# Altium schematic symbol library Schlib1.SchLib: 32 symbols
Pins are listed as number, name and electrical type; pins without a type are passive.

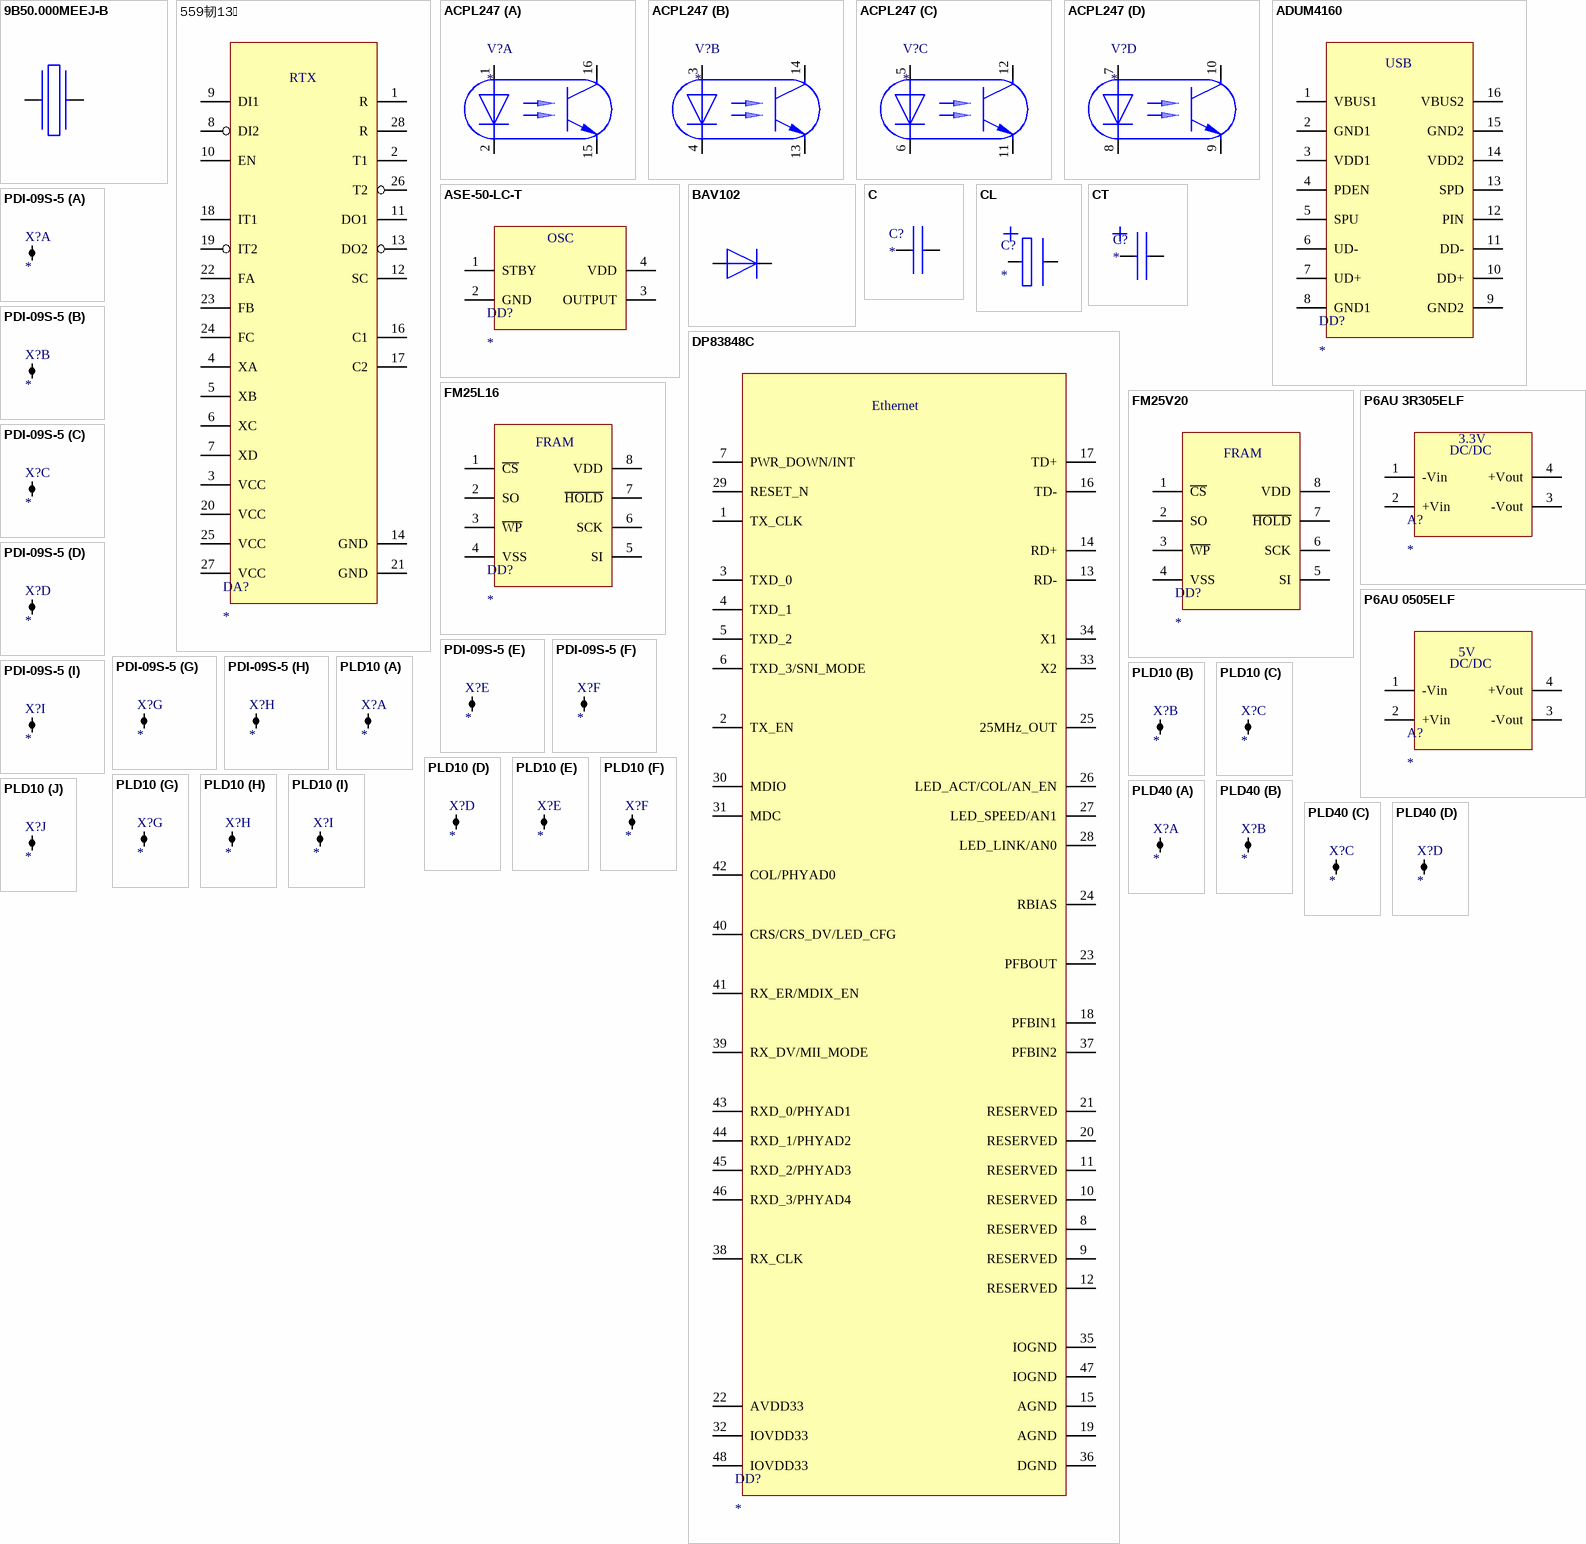
[diagram p0: symbols 9B50.000MEEJ-B to PLD40]

## 9B50.000MEEJ-B
designator Q?
footprint 惺386
pins: 1, 2

## 559韧13�
designator DA?
footprint H09.28-1B (5559韧13�)
pins: 1 R, 2 T1, 3 VCC, 4 XA, 5 XB, 6 XC, 7 XD, 8 DI2, 9 DI1, 10 EN, 11 DO1, 12 SC, 13 DO2, 14 GND, 16 C1, 17 C2, 18 IT1, 19 IT2, 20 VCC, 21 GND, 22 FA, 23 FB, 24 FC, 25 VCC, 26 T2, 27 VCC, 28 R
text: RTX

## ACPL247
designator V?
footprint SOP127P700X220-16N (ACPL247)
part A pins: 1, 2, 15, 16
part B pins: 3, 4, 13, 14
part C pins: 5, 6, 11, 12
part D pins: 7, 8, 9, 10

## ADUM4160
designator DD?
footprint SOIC127P1030X265-16N (ADUM4160)
pins: 1 VBUS1, 2 GND1, 3 VDD1, 4 PDEN, 5 SPU, 6 UD-, 7 UD+, 8 GND1, 9 GND2, 10 DD+, 11 DD-, 12 PIN, 13 SPD, 14 VDD2, 15 GND2, 16 VBUS2
text: USB

## ASE-50-LC-T
designator DD?
footprint ASE_OSC
pins: 1 STBY, 2 GND, 3 OUTPUT, 4 VDD
text: OSC

## BAV102
designator VD?
footprint BAV102
pins: 1, 2

## C
designator C?
footprint CAP0805 (Chip Capacitor, 2-Leads, Body 2,0x1,3mm, IPC Medium Density)
pins: 1, 2

## CL
designator C?
footprint CAPT (Chip Capacitor, 2-Leads, Body 3,5x2,8mm, IPC Medium Density)
pins: 1, 2

## CT
designator C?
footprint CAPT (Chip Capacitor, 2-Leads, Body 3,5x2,8mm, IPC Medium Density)
pins: 1, 2

## DP83848C
designator DD?
footprint VBH48A_N (DP83848C)
pins: 1 TX_CLK, 2 TX_EN, 3 TXD_0, 4 TXD_1, 5 TXD_2, 6 TXD_3/SNI_MODE, 7 PWR_DOWN/INT, 8 RESERVED, 9 RESERVED, 10 RESERVED, 11 RESERVED, 12 RESERVED, 13 RD-, 14 RD+, 15 AGND, 16 TD-, 17 TD+, 18 PFBIN1, 19 AGND, 20 RESERVED, 21 RESERVED, 22 AVDD33, 23 PFBOUT, 24 RBIAS, 25 25MHz_OUT, 26 LED_ACT/COL/AN_EN, 27 LED_SPEED/AN1, 28 LED_LINK/AN0, 29 RESET_N, 30 MDIO, 31 MDC, 32 IOVDD33, 33 X2, 34 X1, 35 IOGND, 36 DGND, 37 PFBIN2, 38 RX_CLK, 39 RX_DV/MII_MODE, 40 CRS/CRS_DV/LED_CFG, 41 RX_ER/MDIX_EN, 42 COL/PHYAD0, 43 RXD_0/PHYAD1, 44 RXD_1/PHYAD2, 45 RXD_2/PHYAD3, 46 RXD_3/PHYAD4, 47 IOGND, 48 IOVDD33
text: Ethernet

## FM25L16
designator DD?
footprint SOIC127P600X175-8N (FM25L16)
pins: 1 ~{CS}, 2 SO, 3 ~{WP}, 4 VSS, 5 SI, 6 SCK, 7 ~{HOLD}, 8 VDD
text: FRAM

## FM25V20
designator DD?
footprint SOIC127P800X203-8N (FM25V20)
pins: 1 ~{CS}, 2 SO, 3 ~{WP}, 4 VSS, 5 SI, 6 SCK, 7 ~{HOLD}, 8 VDD
text: FRAM

## P6AU 3R305ELF
designator A?
footprint SIP4 (P6AU)
pins: 1 -Vin, 2 +Vin, 3 -Vout, 4 +Vout
text: 3.3V; DC/DC

## P6AU 0505ELF
designator A?
footprint SIP4 (P6AU)
pins: 1 -Vin, 2 +Vin, 3 -Vout, 4 +Vout
text: 5V; DC/DC

## PDI-09S-5
designator X?
footprint DSUB9
part A pins: 1
part B pins: 2 1
part C pins: 3 1
part D pins: 4 1
part E pins: 5 1
part F pins: 6 1
part G pins: 7 1
part H pins: 8 1
part I pins: 9 1

## PLD10
designator X?
footprint PLD10
part A pins: 1
part B pins: 2 1
part C pins: 3 1
part D pins: 4 1
part E pins: 5 1
part F pins: 6 1
part G pins: 7 1
part H pins: 8 1
part I pins: 9 1
part J pins: 10 1

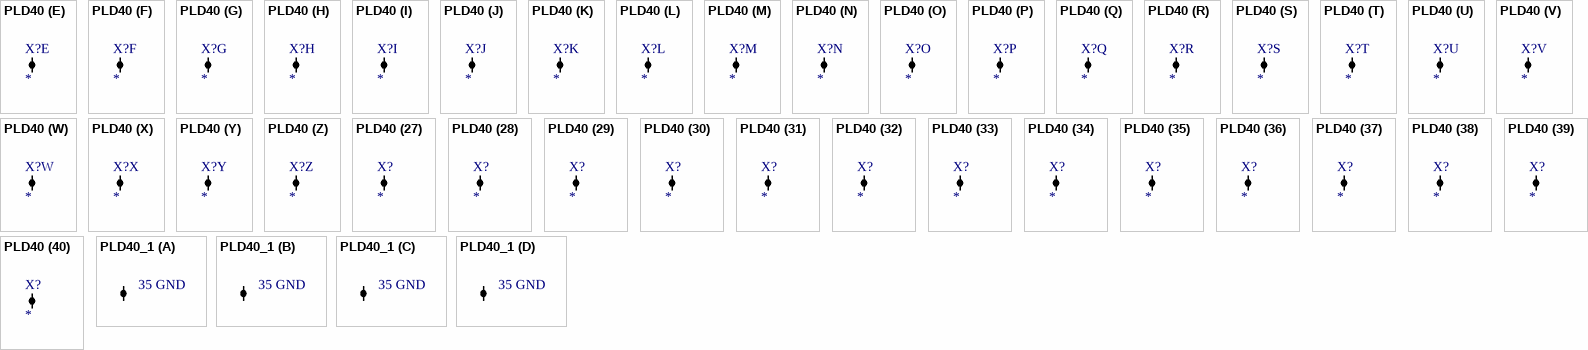
[diagram p1: symbols PLD40 to PLD40_1]

## PLD40
designator X?
footprint PLD40
part A pins: 1
part B pins: 2 1
part C pins: 3 1
part D pins: 4 1
part E pins: 5 1
part F pins: 6 1
part G pins: 7 1
part H pins: 8 1
part I pins: 9 1
part J pins: 10 1
part K pins: 11 1
part L pins: 12 1
part M pins: 13 1
part N pins: 14 1
part O pins: 15 1
part P pins: 16 1
part Q pins: 17 1
part R pins: 18 1
part S pins: 19 1
part T pins: 20 1
part U pins: 21 1
part V pins: 22 1
part W pins: 23 1
part X pins: 24 1
part Y pins: 25 1
part Z pins: 26 1
part 27 pins: 27 1
part 28 pins: 28 1
part 29 pins: 29 1
part 30 pins: 30 1
part 31 pins: 31 1
part 32 pins: 32 1
part 33 pins: 33 1
part 34 pins: 34 1
part 35 pins: 35 1
part 36 pins: 36 1
part 37 pins: 37 1
part 38 pins: 38 1
part 39 pins: 39 1
part 40 pins: 40 1

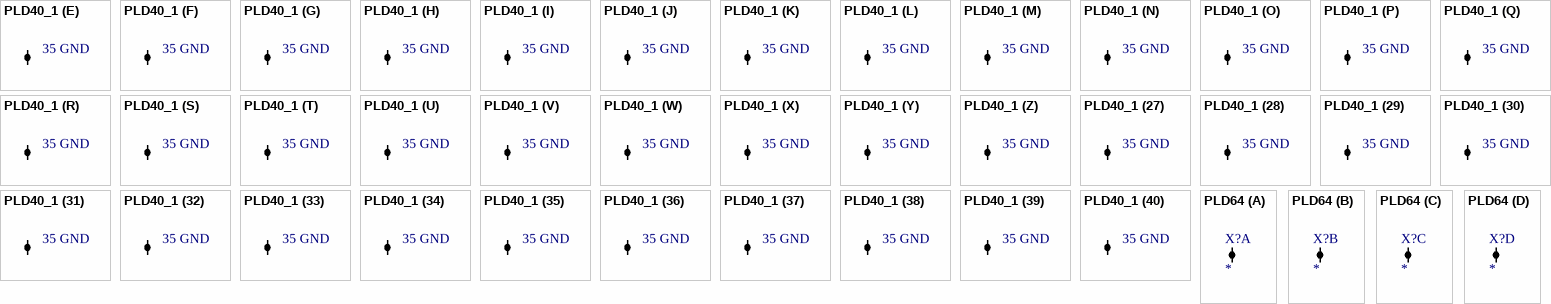
[diagram p2: symbols PLD40_1 to PLD64]

## PLD40_1
designator X?, comment 35 GND
footprint PLD40
part A pins: 1
part B pins: 2 1
part C pins: 3 1
part D pins: 4 1
part E pins: 5 1
part F pins: 6 1
part G pins: 7 1
part H pins: 8 1
part I pins: 9 1
part J pins: 10 1
part K pins: 11 1
part L pins: 12 1
part M pins: 13 1
part N pins: 14 1
part O pins: 15 1
part P pins: 16 1
part Q pins: 17 1
part R pins: 18 1
part S pins: 19 1
part T pins: 20 1
part U pins: 21 1
part V pins: 22 1
part W pins: 23 1
part X pins: 24 1
part Y pins: 25 1
part Z pins: 26 1
part 27 pins: 27 1
part 28 pins: 28 1
part 29 pins: 29 1
part 30 pins: 30 1
part 31 pins: 31 1
part 32 pins: 32 1
part 33 pins: 33 1
part 34 pins: 34 1
part 35 pins: 35 1
part 36 pins: 36 1
part 37 pins: 37 1
part 38 pins: 38 1
part 39 pins: 39 1
part 40 pins: 40 1

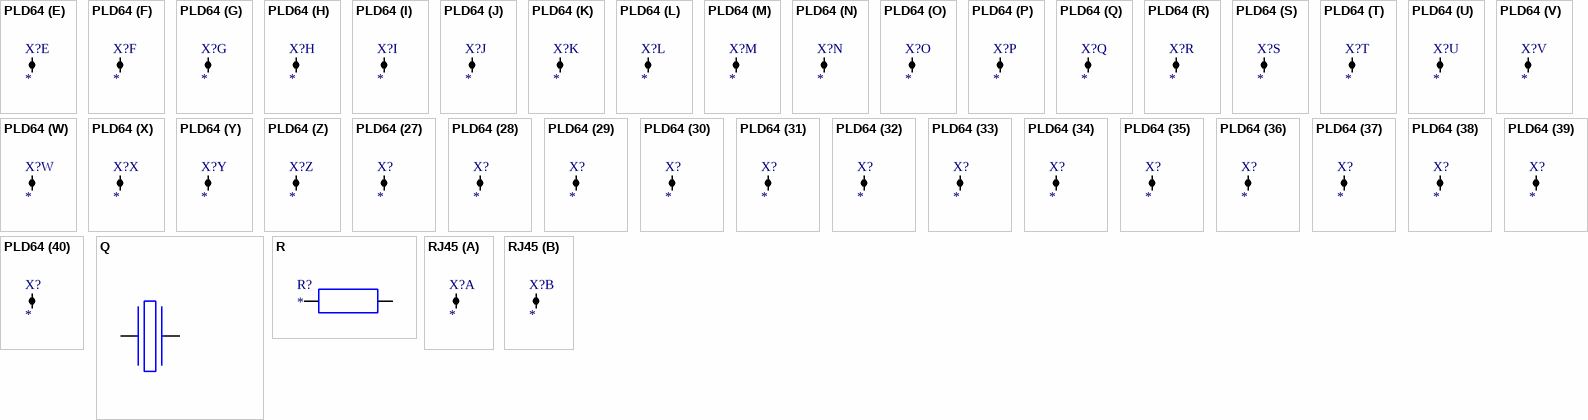
[diagram p3: symbols PLD64 to RJ45]

## PLD64
designator X?
footprint PLD64
part A pins: 1
part B pins: 2 1
part C pins: 3 1
part D pins: 4 1
part E pins: 5 1
part F pins: 6 1
part G pins: 7 1
part H pins: 8 1
part I pins: 9 1
part J pins: 10 1
part K pins: 11 1
part L pins: 12 1
part M pins: 13 1
part N pins: 14 1
part O pins: 15 1
part P pins: 16 1
part Q pins: 17 1
part R pins: 18 1
part S pins: 19 1
part T pins: 20 1
part U pins: 21 1
part V pins: 22 1
part W pins: 23 1
part X pins: 24 1
part Y pins: 25 1
part Z pins: 26 1
part 27 pins: 27 1
part 28 pins: 28 1
part 29 pins: 29 1
part 30 pins: 30 1
part 31 pins: 31 1
part 32 pins: 32 1
part 33 pins: 33 1
part 34 pins: 34 1
part 35 pins: 35 1
part 36 pins: 36 1
part 37 pins: 37 1
part 38 pins: 38 1
part 39 pins: 39 1
part 40 pins: 40 1
part 41 pins: 33 1
part 42 pins: 42 1
part 43 pins: 43 1
part 44 pins: 44 1
part 45 pins: 45 1
part 46 pins: 46 1
part 47 pins: 47 1
part 48 pins: 48 1
part 49 pins: 49 1
part 50 pins: 50 1
part 51 pins: 51 1
part 52 pins: 52 1
part 53 pins: 53 1
part 54 pins: 54 1
part 55 pins: 55 1
part 56 pins: 56 1
part 57 pins: 57 1
part 58 pins: 58 1
part 59 pins: 59 1
part 60 pins: 60 1
part 61 pins: 61 1
part 62 pins: 62 1
part 63 pins: 63 1
part 64 pins: 64 1

## Q
designator Q?  (value not drawn)
footprint 惺386
pins: 1, 2

## R
designator R?
footprint RES0805 (Chip Resistor, 2-Leads, Body 2,0x1,3mm, IPC Medium Density)
pins: 1, 2

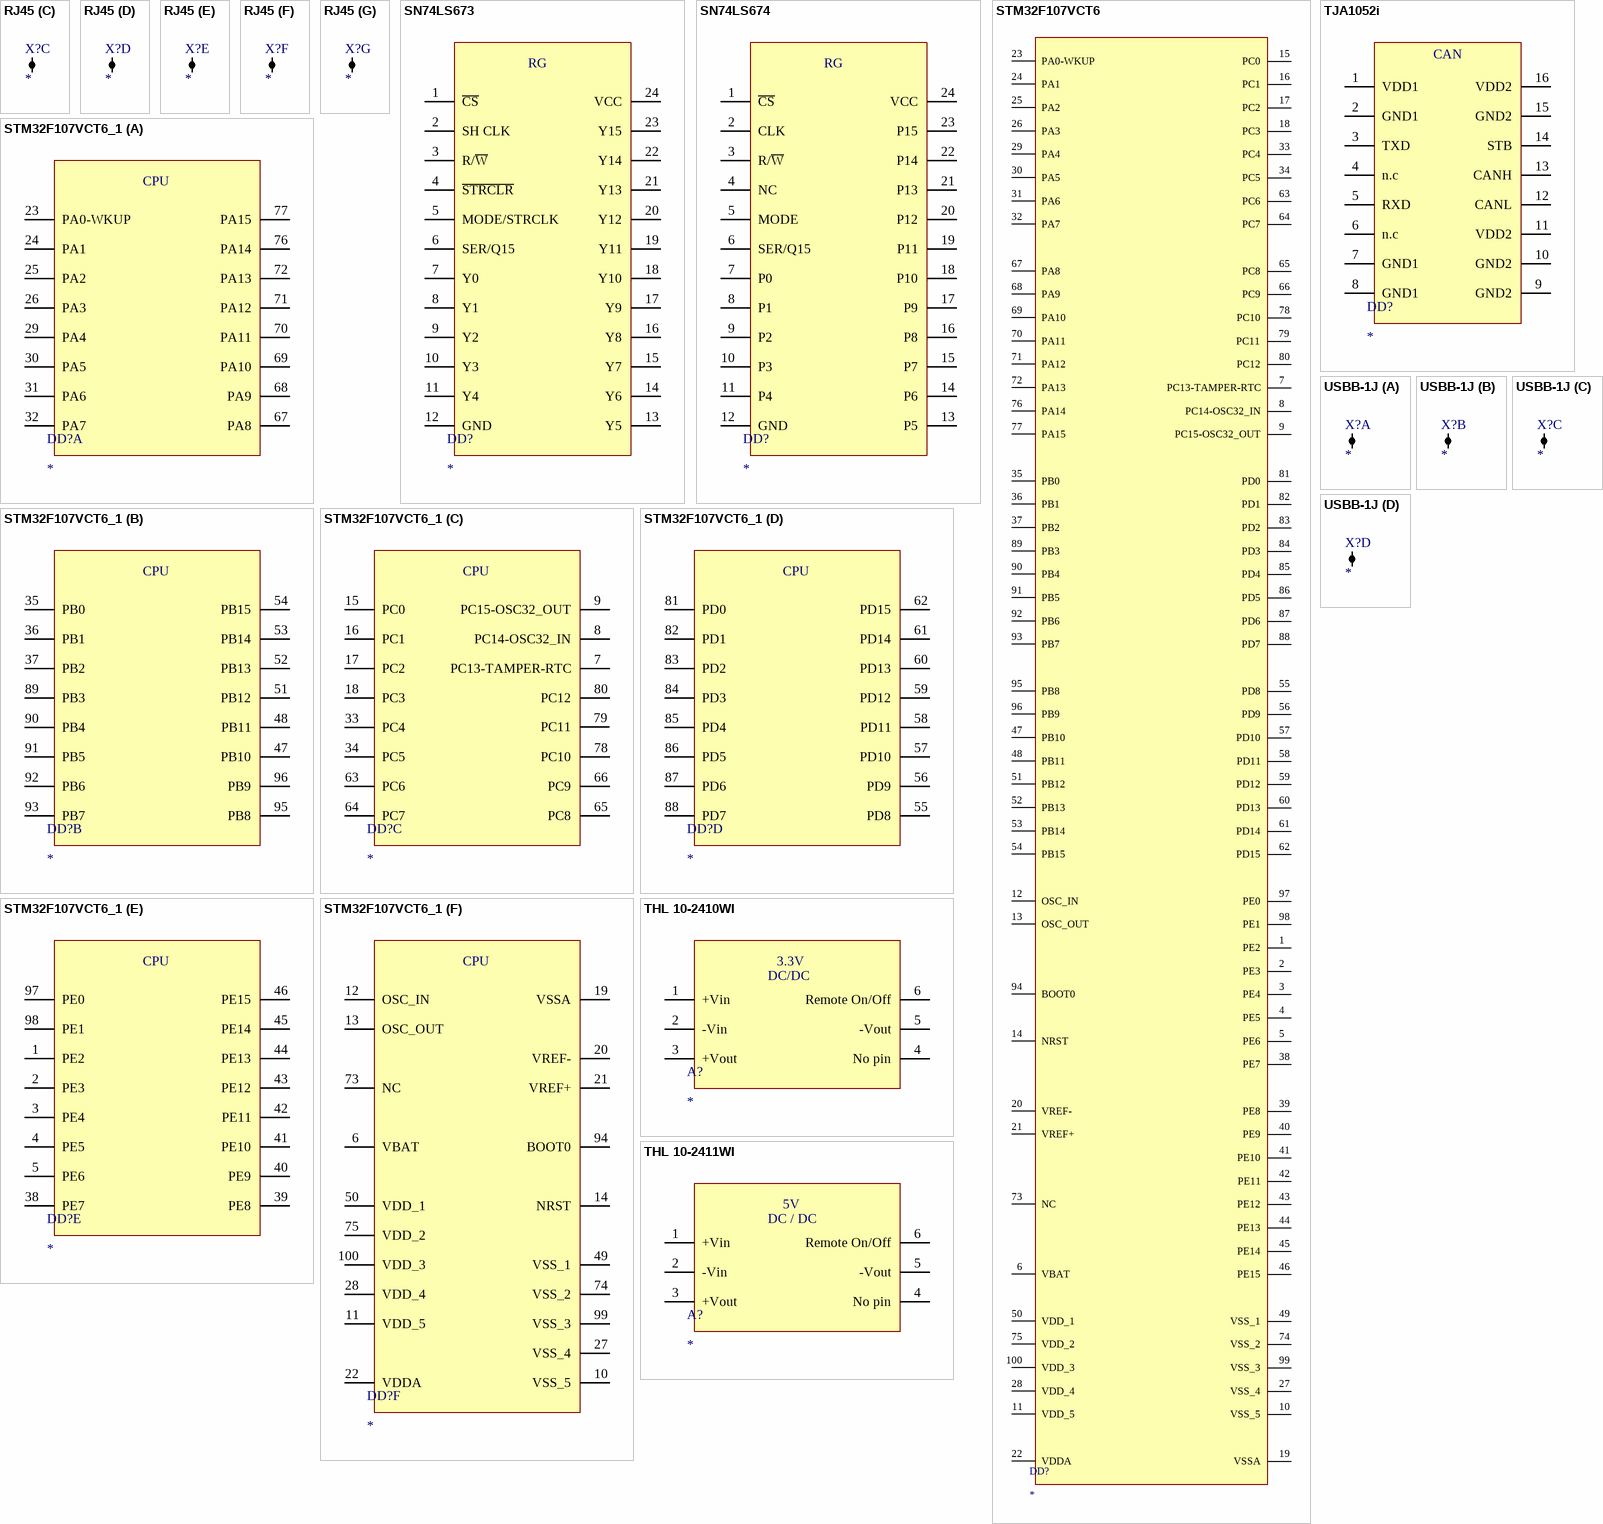
[diagram p4: symbols RJ45 to USBB-1J]

## RJ45
designator X?
footprint RJ45
part A pins: 1
part B pins: 2 1
part C pins: 3 1
part D pins: 4 1
part E pins: 5 1
part F pins: 6 1
part G pins: 8 1

## SN74LS673
designator DD?
footprint SOP127P1030X265-24N (SOP, 24-Leads, Body 15,6x7,6mm (max), Pitch 1,27mm, IPC Medium Density)
pins: 1 ~{CS}, 2 SH CLK, 3 R/~{W}, 4 ~{STRCLR}, 5 MODE/STRCLK, 6 SER/Q15, 7 Y0, 8 Y1, 9 Y2, 10 Y3, 11 Y4, 12 GND, 13 Y5, 14 Y6, 15 Y7, 16 Y8, 17 Y9, 18 Y10, 19 Y11, 20 Y12, 21 Y13, 22 Y14, 23 Y15, 24 VCC
text: RG

## SN74LS674
designator DD?
footprint SOP127P1030X265-24N (SOP, 24-Leads, Body 15,6x7,6mm (max), Pitch 1,27mm, IPC Medium Density)
pins: 1 ~{CS}, 2 CLK, 3 R/~{W}, 4 NC, 5 MODE, 6 SER/Q15, 7 P0, 8 P1, 9 P2, 10 P3, 11 P4, 12 GND, 13 P5, 14 P6, 15 P7, 16 P8, 17 P9, 18 P10, 19 P11, 20 P12, 21 P13, 22 P14, 23 P15, 24 VCC
text: RG

## STM32F107VCT6
designator DD?
footprint LQFP100_N (STM32F107VCT6)
pins: 1 PE2, 2 PE3, 3 PE4, 4 PE5, 5 PE6, 6 VBAT, 7 PC13-TAMPER-RTC, 8 PC14-OSC32_IN, 9 PC15-OSC32_OUT, 10 VSS_5, 11 VDD_5, 12 OSC_IN, 13 OSC_OUT, 14 NRST, 15 PC0, 16 PC1, 17 PC2, 18 PC3, 19 VSSA, 20 VREF-, 21 VREF+, 22 VDDA, 23 PA0-WKUP, 24 PA1, 25 PA2, 26 PA3, 27 VSS_4, 28 VDD_4, 29 PA4, 30 PA5, 31 PA6, 32 PA7, 33 PC4, 34 PC5, 35 PB0, 36 PB1, 37 PB2, 38 PE7, 39 PE8, 40 PE9, 41 PE10, 42 PE11, 43 PE12, 44 PE13, 45 PE14, 46 PE15, 47 PB10, 48 PB11, 49 VSS_1, 50 VDD_1, 51 PB12, 52 PB13, 53 PB14, 54 PB15, 55 PD8, 56 PD9, 57 PD10, 58 PD11, 59 PD12, 60 PD13, 61 PD14, 62 PD15, 63 PC6, 64 PC7, 65 PC8, 66 PC9, 67 PA8, 68 PA9, 69 PA10, 70 PA11, 71 PA12, 72 PA13, 73 NC, 74 VSS_2, 75 VDD_2, 76 PA14, 77 PA15, 78 PC10, 79 PC11, 80 PC12, 81 PD0, 82 PD1, 83 PD2, 84 PD3, 85 PD4, 86 PD5, 87 PD6, 88 PD7, 89 PB3, 90 PB4, 91 PB5, 92 PB6, 93 PB7, 94 BOOT0, 95 PB8, 96 PB9, 97 PE0, 98 PE1, 99 VSS_3, 100 VDD_3

## STM32F107VCT6_1
designator DD?
footprint LQFP100_N (STM32F107VCT6)
part A pins: 23 PA0-WKUP, 24 PA1, 25 PA2, 26 PA3, 29 PA4, 30 PA5, 31 PA6, 32 PA7, 67 PA8, 68 PA9, 69 PA10, 70 PA11, 71 PA12, 72 PA13, 76 PA14, 77 PA15
part B pins: 35 PB0, 36 PB1, 37 PB2, 47 PB10, 48 PB11, 51 PB12, 52 PB13, 53 PB14, 54 PB15, 89 PB3, 90 PB4, 91 PB5, 92 PB6, 93 PB7, 95 PB8, 96 PB9
part C pins: 7 PC13-TAMPER-RTC, 8 PC14-OSC32_IN, 9 PC15-OSC32_OUT, 15 PC0, 16 PC1, 17 PC2, 18 PC3, 33 PC4, 34 PC5, 63 PC6, 64 PC7, 65 PC8, 66 PC9, 78 PC10, 79 PC11, 80 PC12
part D pins: 55 PD8, 56 PD9, 57 PD10, 58 PD11, 59 PD12, 60 PD13, 61 PD14, 62 PD15, 81 PD0, 82 PD1, 83 PD2, 84 PD3, 85 PD4, 86 PD5, 87 PD6, 88 PD7
part E pins: 1 PE2, 2 PE3, 3 PE4, 4 PE5, 5 PE6, 38 PE7, 39 PE8, 40 PE9, 41 PE10, 42 PE11, 43 PE12, 44 PE13, 45 PE14, 46 PE15, 97 PE0, 98 PE1
part F pins: 6 VBAT, 10 VSS_5, 11 VDD_5, 12 OSC_IN, 13 OSC_OUT, 14 NRST, 19 VSSA, 20 VREF-, 21 VREF+, 22 VDDA, 27 VSS_4, 28 VDD_4, 49 VSS_1, 50 VDD_1, 73 NC, 74 VSS_2, 75 VDD_2, 94 BOOT0, 99 VSS_3, 100 VDD_3
part A text: CPU
part B text: CPU
part C text: CPU
part D text: CPU
part E text: CPU
part F text: CPU

## THL 10-2410WI
designator A?
footprint compact1x1case (THL 10-2410WI/10-2411WI)
pins: 1 +Vin, 2 -Vin, 3 +Vout, 4 No pin, 5 -Vout, 6 Remote On/Off
text: 3.3V; DC/DC

## THL 10-2411WI
designator A?
footprint compact1x1case (THL 10-2410WI/10-2411WI)
pins: 1 +Vin, 2 -Vin, 3 +Vout, 4 No pin, 5 -Vout, 6 Remote On/Off
text: 5V; DC / DC

## TJA1052i
designator DD?
footprint SOP127P1030X265-16N (TJA1052i)
pins: 1 VDD1, 2 GND1, 3 TXD, 4 n.c, 5 RXD, 6 n.c, 7 GND1, 8 GND1, 9 GND2, 10 GND2, 11 VDD2, 12 CANL, 13 CANH, 14 STB, 15 GND2, 16 VDD2
text: CAN

## USBB-1J
designator X?
footprint usbB
part A pins: 1
part B pins: 2 1
part C pins: 3 1
part D pins: 4 1

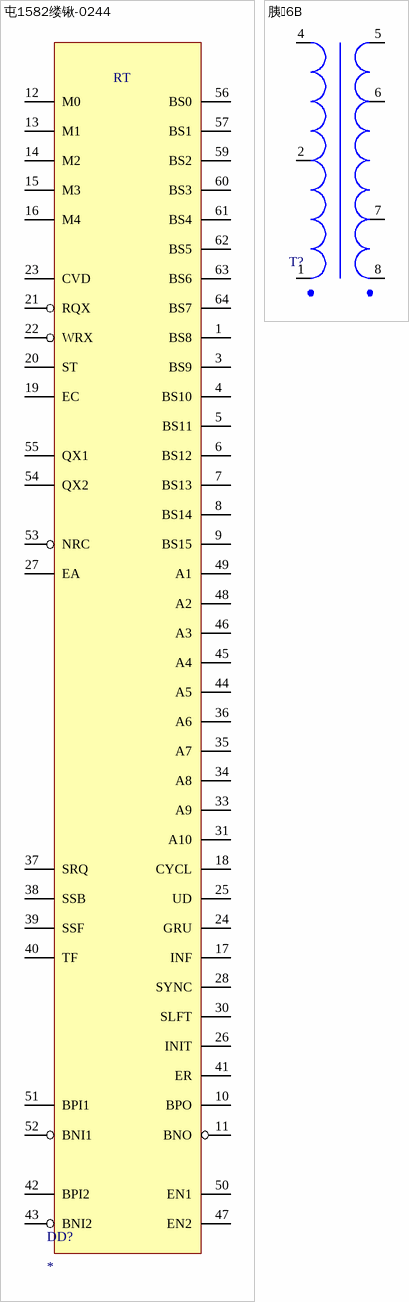
[diagram p5: symbols 屯1582缕锹-0244 to 胰�6B]

## 屯1582缕锹-0244
designator DD?
footprint H18.64-1B (�1582缕3�-042)
pins: 1 BS8, 3 BS9, 4 BS10, 5 BS11, 6 BS12, 7 BS13, 8 BS14, 9 BS15, 10 BPO, 11 BNO, 12 M0, 13 M1, 14 M2, 15 M3, 16 M4, 17 INF, 18 CYCL, 19 EC, 20 ST, 21 RQX, 22 WRX, 23 CVD, 24 GRU, 25 UD, 26 INIT, 27 EA, 28 SYNC, 30 SLFT, 31 A10, 33 A9, 34 A8, 35 A7, 36 A6, 37 SRQ, 38 SSB, 39 SSF, 40 TF, 41 ER, 42 BPI2, 43 BNI2, 44 A5, 45 A4, 46 A3, 47 EN2, 48 A2, 49 A1, 50 EN1, 51 BPI1, 52 BNI1, 53 NRC, 54 QX2, 55 QX1, 56 BS0, 57 BS1, 59 BS2, 60 BS3, 61 BS4, 62 BS5, 63 BS6, 64 BS7
text: RT

## 胰�6B
designator T?  (value not drawn)
footprint TIL6V (胰�6�)
pins: 1, 2, 4, 5, 6, 7, 8